# Altium schematic symbol library Diodes.SchLib: 22 symbols
Pins are listed as number, name and electrical type; pins without a type are passive.

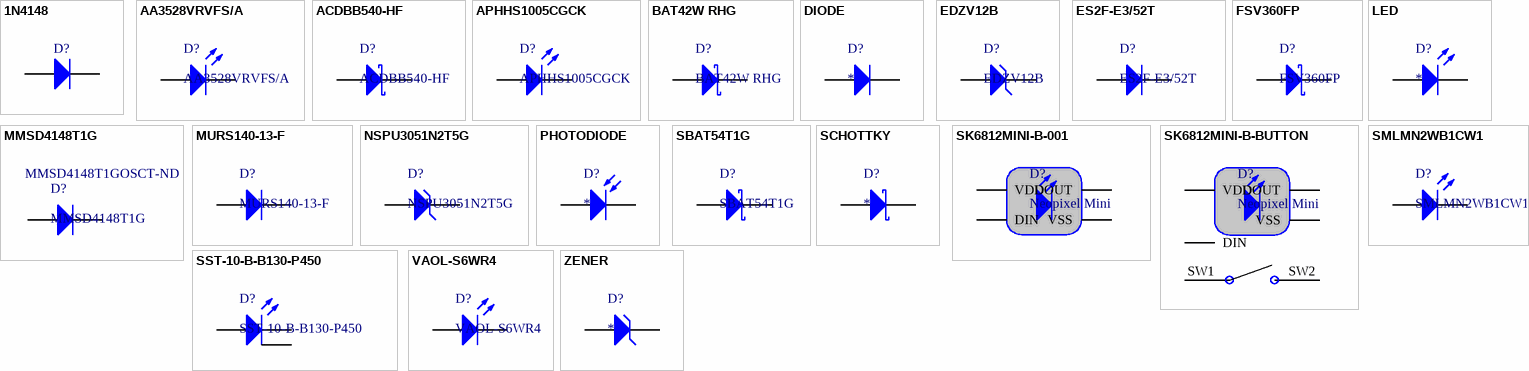
[diagram p0: symbols 1N4148 to ZENER]

## 1N4148
designator D?, comment 1N4148WT  (value not drawn)
DIODE GEN PURP 75V 200MA SOD523F; Published: 8-Jun-2000; LatestRevisionDate: 17-Jul-2002; LatestRevisionNote: Re-released for DXP Platform.; DatasheetVersion: 1997; PackageReference: DO-35; Publisher: Altium Limited; PackageDescription: Diode, Axial; Body 3.8 x 1.9 mm (LxDia. max), Lead Dia. 0.53 mm (max); Code_JEDEC: DO-204-AH; ComponentLink1Description: Manufacturer Link; ComponentLink1URL: http://www.fairchildsemi.com/; ComponentLink2Description: Datasheet; ComponentLink2URL: http://www.fairchildsemi.com/ds/1N%2F1N4148.pdf; Supplier 1: Digi-Key; Supplier Part Number 1: 1N4148WTQ-7DICT-ND
footprint SOD-523F
pins: 1 K, 2 A

## AA3528VRVFS/A
designator D?
LED VIOLET CLEAR SMD 3.3V; Supplier 1: Digi-Key; Supplier Part Number 1: 754-1535-1-ND
footprint PLCC-2
pins: 1 K, 2 A

## ACDBB540-HF
designator D?
DIODE SCHOTTKY 40V 5A DO214AA; Supplier 1: Digi-Key; Supplier Part Number 1: 641-1898-1-ND
footprint SMB
pins: 1 K, 2 A

## APHHS1005CGCK
designator D?
LED GREEN CLEAR CHIP SMD; Supplier 1: Digi-Key; Supplier Part Number 1: 754-1101-1-ND
footprint 0402-LED-G (Chip LED, Green 0402)
pins: 1 K, 2 A

## BAT42W RHG
designator D?
DIODE SCHOTTKY 30V 200MA SOD123; Supplier 1: Digi-Key; Supplier Part Number 1: BAT42WRHGCT-ND
footprint SOD-123H
pins: 1 K, 2 A

## DIODE
designator D?
pins: 1 K, 2 A

## EDZV12B
designator D?
DIODE ZENER 12V 150MW EMD2; Supplier 1: Digi-Key; Supplier Part Number 1: EDZVFHT2R12BCT-ND
footprint EMD12
pins: 1 K, 2 A

## ES2F-E3/52T
designator D?
DIODE GEN PURP 300V 2A DO214AA; Supplier 1: Mouser; Supplier Part Number 1: 625-ES2F-E3
footprint SMB
pins: 1 K, 2 A

## FSV360FP
designator D?
DIODE SCHOTTKY 60V 3A SOD123HE; Supplier 1: Digi-Key; Supplier Part Number 1: FSV360FPCT-ND
footprint SOD-123H
pins: 1 K, 2 A

## LED
designator D?
pins: 1 K, 2 A

## MMSD4148T1G
designator D?  Supplier Part Number 1: MMSD4148T1GOSCT-ND
DIODE GEN PURP 100V 200MA SOD123; Supplier 1: Digi-Key
footprint SOD-123H
pins: 1 K, 2 A

## MURS140-13-F
designator D?
DIODE GEN PURP 400V 1A SMB; Supplier 1: Digi-Key; Supplier Part Number 1: MURS140-FDICT-ND
footprint SMB
pins: 1 K, 2 A

## NSPU3051N2T5G
designator D?
TVS DIODE 5.5VWM 9.5VC 2X2DFN; Supplier 1: Digi-Key; Supplier Part Number 1: NSPU3051N2T5GOSCT-ND
footprint DFN2x2
pins: A, C

## PHOTODIODE
designator D?
pins: 1 K, 2 A

## SBAT54T1G
designator D?
DIODE SCHOTTKY 30V 200MA SOD123; Supplier 1: Digi-Key; Supplier Part Number 1: SBAT54T1GOSCT-ND
footprint SOD-123H
pins: 1 K, 2 A

## SCHOTTKY
designator D?
pins: 1 K, 2 A

## SK6812MINI-B-001
designator D?, comment Neopixel Mini
ADDRESS LED DISC SERIAL RGB; Supplier 1: Digi-Key; Supplier Part Number 1: 1528-1541-ND
footprint SK6812 (3535) (Neopixel Mini)
pins: 1 DOUT, 2 VSS, 3 DIN, 4 VDD

## SK6812MINI-B-BUTTON
designator D?, comment Neopixel Mini
ADDRESS LED DISC SERIAL RGB; Supplier 1: Digi-Key; Supplier Part Number 1: 1528-1541-ND
footprint SiliconKeypadUnit
pins: 1 DOUT, 2 VSS, 3 DIN, 4 VDD, SW1, SW2

## SMLMN2WB1CW1
designator D?
LED SM 0805 3V 100MCD; Supplier 1: Digi-Key; Supplier Part Number 1: 846-SMLMN2WB1CW1CT-ND
footprint 0805-LED
pins: 1 K, 2 A

## SST-10-B-B130-P450
designator D?
LED SST10 BLUE 450NM SMD; Supplier 1: Digi-Key; Supplier Part Number 1: 1214-1435-1-ND
footprint 0603_LED
pins: 1 A, 2 GND, 3 K

## VAOL-S6WR4
designator D?
LED WHITE DIFFUSED 0603 SMD; Supplier 1: Digi-Key; Supplier Part Number 1: VAOL-S6WR4CT-ND
footprint 0603_LED
pins: 1 K, 2 A

## ZENER
designator D?
pins: 1 K, 2 A